# Altium footprint library multiplexer.PcbLib: 3 footprints
Each footprint in its own frame and in the unit in brackets; x right, y up, seen from the top. Pads: shape width x height; smd on the part's side, far side on the other; paste and mask are expansions set on the pad; w line width, h text height; cw(c..) or ccw(c..) is an arc to the next point about the centre after c.
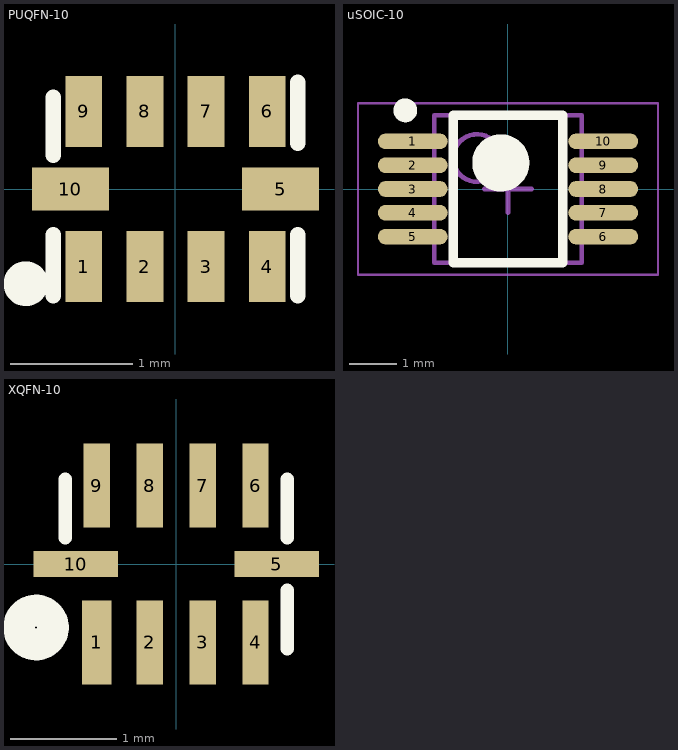
[diagram p0: the footprints below, top view; thin cyan lines are the x and y axes]

## PUQFN-10 [mm]
pads (10):
  rect 0.3x0.58 smd: 1(-0.75,-0.635) 2(-0.25,-0.635) 3(0.25,-0.635) 4(0.75,-0.635) 6(0.75,0.635) 7(0.25,0.635) 8(-0.25,0.635) 9(-0.75,0.635)
  rect 0.63x0.35 smd: 5(0.86,0) 10(-0.86,0)
Top Overlay:
  circle w0.254: c-1.225,-0.775 r0.056
  lines w0.127: -1,-0.875 -1,-0.375 ; -1,0.275 -1,0.75 ; 1,-0.875 1,-0.375 ; 1,0.375 1,0.875
3D body: height 0.6, standoff 0, extent -1,-0.75 1,0.75

## uSOIC-10 [mm] "SOIC, 10-Leads, Body 3.00x3.00mm, Pitch 1.27mm, IPC Medium Density"
height 1.1
pads (10):
  oval 1.47x0.33 smd: 1(-2,1) 2(-2,0.5) 3(-2,0) 4(-2,-0.5) 5(-2,-1) 6(2,-1) 7(2,-0.5) 8(2,0) 9(2,0.5) 10(2,1)
Top Overlay:
  circle w0.6: c-0.15,0.55 r0.3
  circle w0.25: c-2.159,1.651 r0.125
  lines w0.2: -1.15,-1.55 1.15,-1.55 1.15,1.55 -1.15,1.55 -1.15,-1.55
Mechanical 13:
  circle w0.1: c-0.65,0.65 r0.5
  lines w0.1: -1.55,-1.55 1.55,-1.55 1.55,1.55 -1.55,1.55 -1.55,-1.55
Mechanical 15:
  lines w0.05: -3.15,-1.8 3.15,-1.8 3.15,1.8 -3.15,1.8 -3.15,-1.8
  lines w0.1: -0.5,0 0.5,0 ; 0,-0.5 0,0.5
3D body: height 1.1, standoff 0.05, extent -1.55,-1.55 1.55,1.55

## XQFN-10 [mm]
pads (10):
  rect 0.28x0.793 smd: 1(-0.75,-0.741)
  rect 0.25x0.793 smd: 2(-0.25,-0.741) 3(0.25,-0.741) 4(0.75,-0.741) 6(0.75,0.741) 7(0.25,0.741) 8(-0.25,0.741) 9(-0.75,0.741)
  rect 0.8x0.25 smd: 5(0.95,0) 10(-0.95,0)
Top Overlay:
  circle w0.3: c-1.325,-0.6 r0.16
  lines w0.127: -1.05,0.25 -1.05,0.8 ; 1.05,-0.8 1.05,-0.25 ; 1.05,0.25 1.05,0.8
3D body: height 0.13, standoff 0, extent -1,-0.8 1,0.8